# Altium schematic symbol library MCU and memory.SchLib: 6 symbols
Pins are listed as number, name and electrical type; pins without a type are passive.

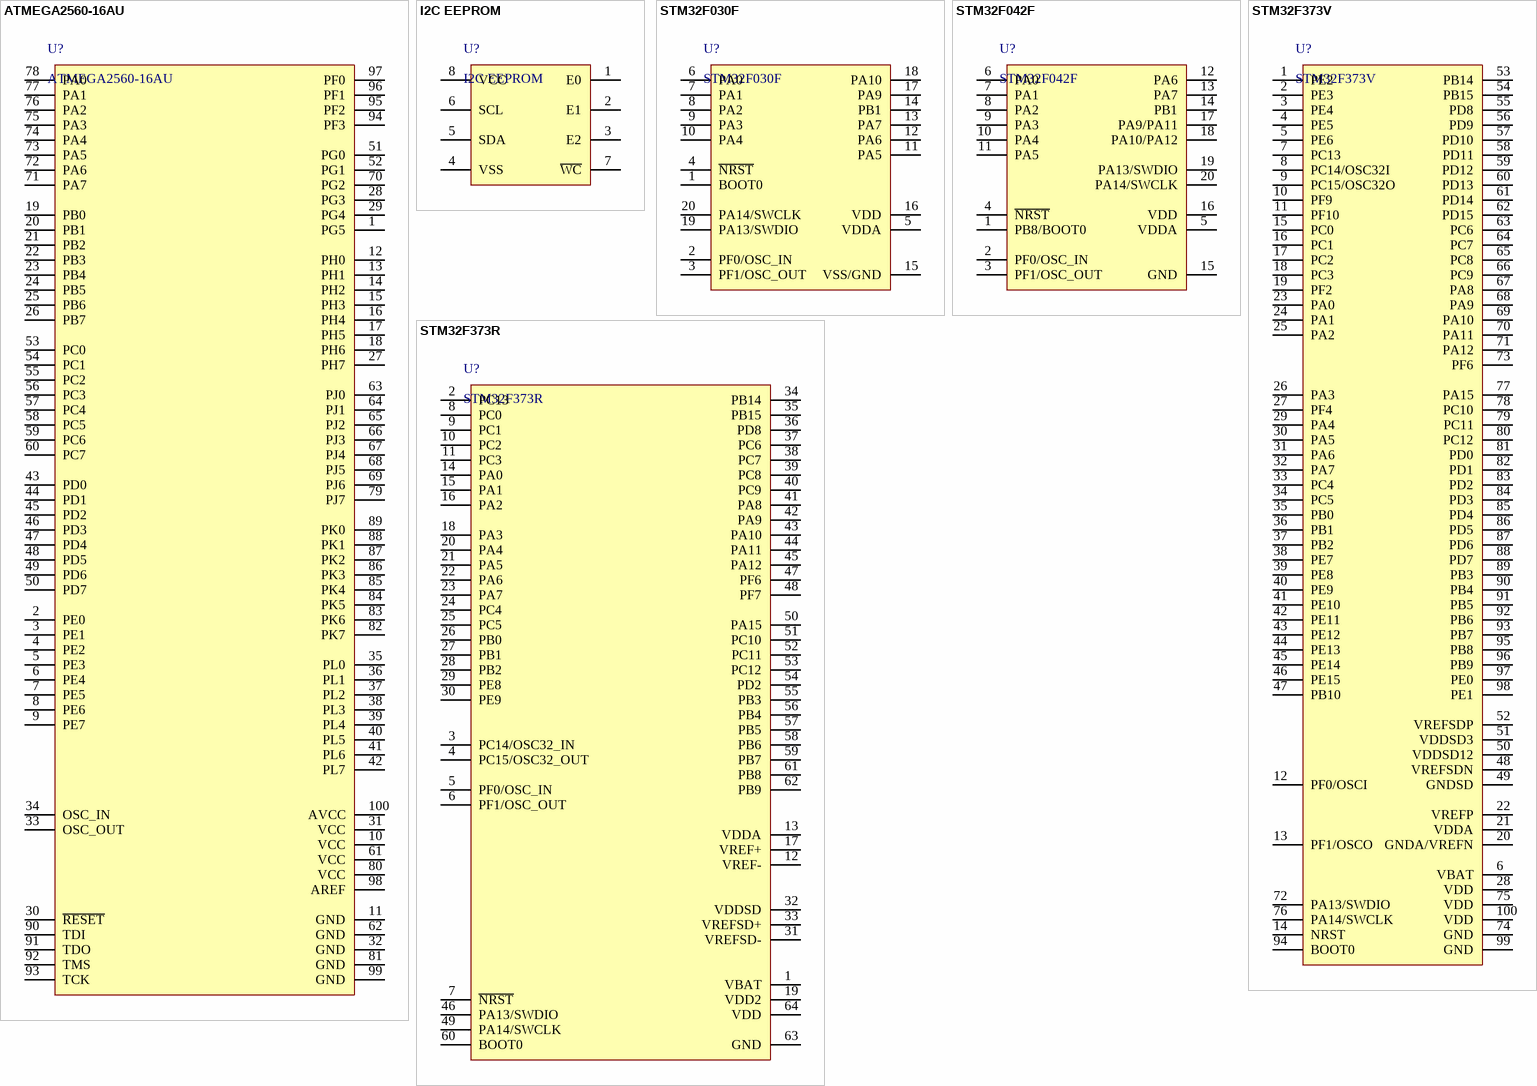
[diagram p0: symbols ATMEGA2560-16AU to STM32F373V]

## ATMEGA2560-16AU
designator U?
32-bit Cortex-M0
footprint LQFP100
pins: 0 EP hidden "Exposed Paddle. The 32-lead LFCSP_VQ has an exposed paddle that must be left unconnected.", 1 PG5, 2 PE0, 3 PE1, 4 PE2, 5 PE3, 6 PE4, 7 PE5, 8 PE6, 9 PE7, 10 VCC, 11 GND, 12 PH0, 13 PH1, 14 PH2, 15 PH3, 16 PH4, 17 PH5, 18 PH6, 19 PB0, 20 PB1, 21 PB2, 22 PB3, 23 PB4, 24 PB5, 25 PB6, 26 PB7, 27 PH7, 28 PG3, 29 PG4, 30 ~{RESET}, 31 VCC, 32 GND, 33 OSC_OUT, 34 OSC_IN, 35 PL0, 36 PL1, 37 PL2, 38 PL3, 39 PL4, 40 PL5, 41 PL6, 42 PL7, 43 PD0, 44 PD1, 45 PD2, 46 PD3, 47 PD4, 48 PD5, 49 PD6, 50 PD7, 51 PG0, 52 PG1, 53 PC0, 54 PC1, 55 PC2, 56 PC3, 57 PC4, 58 PC5, 59 PC6, 60 PC7, 61 VCC, 62 GND, 63 PJ0, 64 PJ1, 65 PJ2, 66 PJ3, 67 PJ4, 68 PJ5, 69 PJ6, 70 PG2, 71 PA7, 72 PA6, 73 PA5, 74 PA4, 75 PA3, 76 PA2, 77 PA1, 78 PA0, 79 PJ7, 80 VCC, 81 GND, 82 PK7, 83 PK6, 84 PK5, 85 PK4, 86 PK3, 87 PK2, 88 PK1, 89 PK0, 90 TDI, 91 TDO, 92 TMS, 93 TCK, 94 PF3, 95 PF2, 96 PF1, 97 PF0, 98 AREF, 99 GND, 100 AVCC

## I2C EEPROM
designator U?
footprint SO8_1.27
pins: 1 E0, 2 E1, 3 E2, 4 VSS, 5 SDA, 6 SCL, 7 ~{WC}, 8 VCC

## STM32F030F
designator U?
32-bit Cortex-M0
footprint TSSOP20 (Dual row, 20 pins, 0.65mm pitch)
pins: 0 EP hidden "Exposed Paddle. The 32-lead LFCSP_VQ has an exposed paddle that must be left unconnected.", 1 BOOT0, 2 PF0/OSC_IN, 3 PF1/OSC_OUT, 4 ~{NRST}, 5 VDDA, 6 PA0, 7 PA1, 8 PA2, 9 PA3, 10 PA4, 11 PA5, 12 PA6, 13 PA7, 14 PB1, 15 VSS/GND, 16 VDD, 17 PA9, 18 PA10, 19 PA13/SWDIO, 20 PA14/SWCLK

## STM32F042F
designator U?
32-bit Cortex-M0
footprint TSSOP20 (Dual row, 20 pins, 0.65mm pitch)
pins: 0 EP hidden "Exposed Paddle. The 32-lead LFCSP_VQ has an exposed paddle that must be left unconnected.", 1 PB8/BOOT0, 2 PF0/OSC_IN, 3 PF1/OSC_OUT, 4 ~{NRST}, 5 VDDA, 6 PA0, 7 PA1, 8 PA2, 9 PA3, 10 PA4, 11 PA5, 12 PA6, 13 PA7, 14 PB1, 15 GND, 16 VDD, 17 PA9/PA11, 18 PA10/PA12, 19 PA13/SWDIO, 20 PA14/SWCLK

## STM32F373R
designator U?
32-bit Cortex-M4
footprint LQFP64
pins: 0 EP hidden "Exposed Paddle. The 32-lead LFCSP_VQ has an exposed paddle that must be left unconnected.", 1 VBAT, 2 PC13, 3 PC14/OSC32_IN, 4 PC15/OSC32_OUT, 5 PF0/OSC_IN, 6 PF1/OSC_OUT, 7 ~{NRST}, 8 PC0, 9 PC1, 10 PC2, 11 PC3, 12 VREF-, 13 VDDA, 14 PA0, 15 PA1, 16 PA2, 17 VREF+, 18 PA3, 19 VDD2, 20 PA4, 21 PA5, 22 PA6, 23 PA7, 24 PC4, 25 PC5, 26 PB0, 27 PB1, 28 PB2, 29 PE8, 30 PE9, 31 VREFSD-, 32 VDDSD, 33 VREFSD+, 34 PB14, 35 PB15, 36 PD8, 37 PC6, 38 PC7, 39 PC8, 40 PC9, 41 PA8, 42 PA9, 43 PA10, 44 PA11, 45 PA12, 46 PA13/SWDIO, 47 PF6, 48 PF7, 49 PA14/SWCLK, 50 PA15, 51 PC10, 52 PC11, 53 PC12, 54 PD2, 55 PB3, 56 PB4, 57 PB5, 58 PB6, 59 PB7, 60 BOOT0, 61 PB8, 62 PB9, 63 GND, 64 VDD

## STM32F373V
designator U?
32-bit Cortex-M4
footprint LQFP100
pins: 0 EP hidden "Exposed Paddle. The 32-lead LFCSP_VQ has an exposed paddle that must be left unconnected.", 1 PE2, 2 PE3, 3 PE4, 4 PE5, 5 PE6, 6 VBAT, 7 PC13, 8 PC14/OSC32I, 9 PC15/OSC32O, 10 PF9, 11 PF10, 12 PF0/OSCI, 13 PF1/OSCO, 14 NRST, 15 PC0, 16 PC1, 17 PC2, 18 PC3, 19 PF2, 20 GNDA/VREFN, 21 VDDA, 22 VREFP, 23 PA0, 24 PA1, 25 PA2, 26 PA3, 27 PF4, 28 VDD, 29 PA4, 30 PA5, 31 PA6, 32 PA7, 33 PC4, 34 PC5, 35 PB0, 36 PB1, 37 PB2, 38 PE7, 39 PE8, 40 PE9, 41 PE10, 42 PE11, 43 PE12, 44 PE13, 45 PE14, 46 PE15, 47 PB10, 48 VREFSDN, 49 GNDSD, 50 VDDSD12, 51 VDDSD3, 52 VREFSDP, 53 PB14, 54 PB15, 55 PD8, 56 PD9, 57 PD10, 58 PD11, 59 PD12, 60 PD13, 61 PD14, 62 PD15, 63 PC6, 64 PC7, 65 PC8, 66 PC9, 67 PA8, 68 PA9, 69 PA10, 70 PA11, 71 PA12, 72 PA13/SWDIO, 73 PF6, 74 GND, 75 VDD, 76 PA14/SWCLK, 77 PA15, 78 PC10, 79 PC11, 80 PC12, 81 PD0, 82 PD1, 83 PD2, 84 PD3, 85 PD4, 86 PD5, 87 PD6, 88 PD7, 89 PB3, 90 PB4, 91 PB5, 92 PB6, 93 PB7, 94 BOOT0, 95 PB8, 96 PB9, 97 PE0, 98 PE1, 99 GND, 100 VDD